# Altium footprint library Semiconductors.PcbLib: 5 footprints
Each footprint in its own frame and in the unit in brackets; x right, y up, seen from the top. Pads: shape width x height; smd on the part's side, far side on the other; paste and mask are expansions set on the pad; w line width, h text height; cw(c..) or ccw(c..) is an arc to the next point about the centre after c.
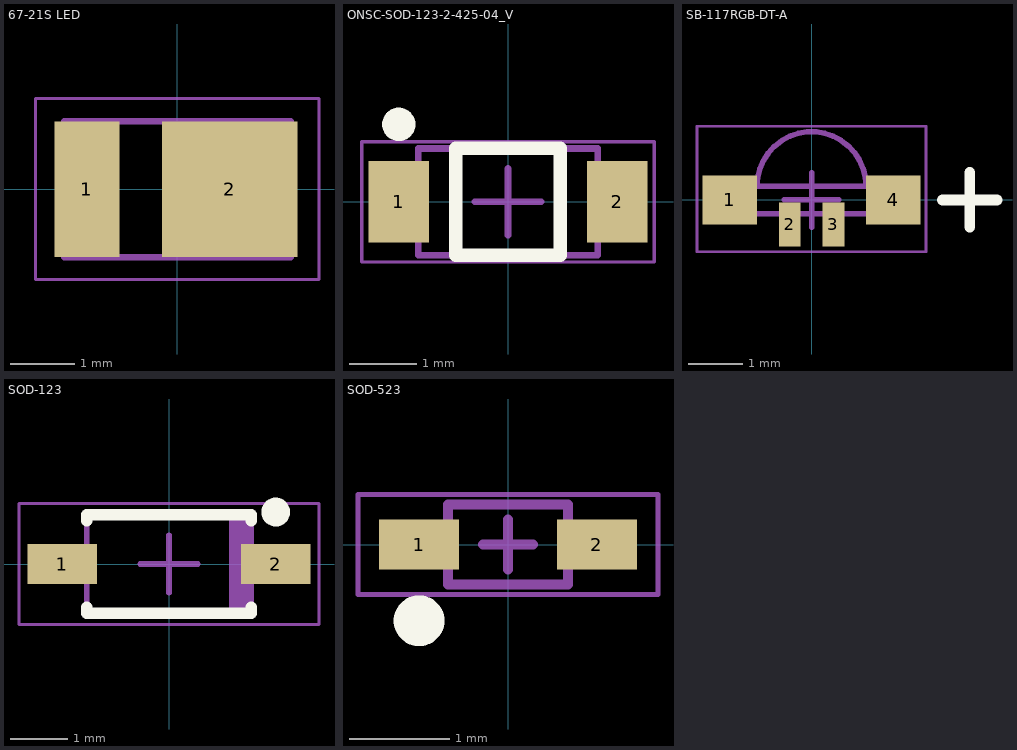
[diagram p0: the footprints below, top view; thin cyan lines are the x and y axes]

## 67-21S LED [mm] "LED 2835 SMD"
height 1.35
pads (2):
  rect 1x2.1 smd: 1(-1.397,0)
  rect 2.1x2.1 smd: 2(0.81,0)
3D Top:
  lines w0.1: -1.75,-1.05 1.75,-1.05 1.75,1.05 -1.75,1.05 -1.75,-1.05
Courtyard Top:
  lines w0.05: -2.19,-1.397 2.19,-1.397 2.19,1.403 -2.19,1.403 -2.19,-1.397
3D body: height 0.7, standoff 0, extent -1.75,-1.397 1.75,1.403

## ONSC-SOD-123-2-425-04_V [mm] "SOD, 2-Leads, Body 2.69x1.6mm"
height 1.35
pads (2):
  rect 0.91x1.22 smd: 1(-1.635,0) 2(1.635,0)
Top Overlay:
  circle w0.25: c-1.635,1.16 r0.125
  lines w0.2: -0.78,-0.8 -0.78,0.8 0.78,0.8 0.78,-0.8 -0.78,-0.8
3D Top:
  lines w0.1: -1.345,-0.8 -1.345,0.8 1.345,0.8 1.345,-0.8 -1.345,-0.8
Courtyard Top:
  lines w0.05: -2.19,-0.9 -2.19,0.9 2.19,0.9 2.19,-0.9 -2.19,-0.9
  lines w0.1: -0.5,0 0.5,0 ; 0,-0.5 0,0.5
3D body: height 1.35, standoff 0, extent -1.345,-0.8 1.345,0.8

## SB-117RGB-DT-A [mm] "SMD, 4-Leads, Body 3x1.5mm, Height 1mm"
height 1
pads (4):
  rect 1x0.9 smd: 1(-1.5,0) 4(1.5,0)
  rect 0.4x0.8 smd: 2(-0.4,-0.45) 3(0.4,-0.45)
Top Overlay:
  lines w0.2: 2.4,0 3.4,0 ; 2.9,-0.5 2.9,0.5
3D Top:
  lines w0.1: -1,0.25 cw(c0,0.25) 1,0.25 ; -1.5,-0.25 -1.5,0.25 1.5,0.25 1.5,-0.25 -1.5,-0.25
Courtyard Top:
  lines w0.05: -2.1,-0.95 2.1,-0.95 2.1,1.35 -2.1,1.35 -2.1,-0.95
  lines w0.1: -0.5,0 0.5,0 ; 0,-0.5 0,0.5
3D body: height 1.01, standoff 0.01, extent -1.501,-0.25 1.5,0.25
3D body: height 1.01, standoff 0.01, extent -1.001,0.249 1,1.25

## SOD-123 [mm]
pads (2):
  rect 1.2x0.7 smd: 1(-1.85,0) 2(1.85,0)
Top Overlay:
  circle w0.25: c1.85,0.9 r0.125
  lines w0.2: -1.425,-0.75 -1.425,-0.85 1.425,-0.85 1.425,-0.75 ; -1.425,0.75 -1.425,0.85 1.425,0.85 1.425,0.75
3D Top:
  rectangle: 1.042,-0.85 1.425,0.85
  lines w0.1: -1.425,-0.85 -1.425,0.85 1.425,0.85 1.425,-0.85 -1.425,-0.85
Courtyard Top:
  lines w0.05: -2.6,-1.05 -2.6,1.05 2.6,1.05 2.6,-1.05 -2.6,-1.05
  lines w0.1: -0.5,0 0.5,0 ; 0,-0.5 0,0.5
3D body: height 1.45, standoff 0, extent -1.425,-0.85 1.425,0.85

## SOD-523 [mm] "SMD, 2-Leads, Body 1.2x0.8mm, Height 0.7mm"
height 0.7
pads (2):
  rect 0.8x0.5 smd: 1(-0.889,0) 2(0.889,0)
Top Overlay:
  circle w0.254: c-0.889,-0.762 r0.127
3D Top:
  lines w0.1: -0.6,-0.4 -0.6,0.4 0.6,0.4 0.6,-0.4 -0.6,-0.4
Courtyard Top:
  lines w0.05: -1.5,-0.5 -1.5,0.5 1.5,0.5 1.5,-0.5 -1.5,-0.5
  lines w0.1: -0.25,0 0.25,0 ; 0,-0.25 0,0.25
3D body: height 0.71, standoff 0.01, extent -0.6,-0.4 0.6,0.4